# EAGLE library part XR-T5691J (library exar)
T1 receive BUFFER
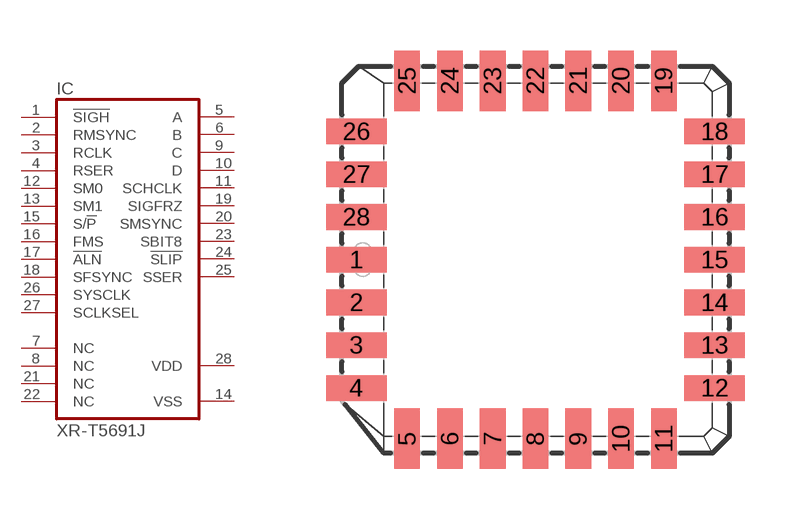
[diagram p57: symbol with the pads of PLCC28; footprint PLCC28]

Designator prefix IC

## XR-T5691J (OC_FARNELL: unknown; OC_NEWARK: unknown)  [PLCC28]
1  !SIGH  in
2  RMSYNC  in
3  RCLK  in
4  RSER  in
5  A  out
6  B  out
7  NC  nc
8  NC  nc
9  C  out
10  D  out
11  SCHCLK  out
12  SM0  in
13  SM1  in
14  VSS  pwr
15  S/!P  in
16  FMS  in
17  !ALN  in
18  SFSYNC  in
19  SIGFRZ  out
20  SMSYNC  out
21  NC  nc
22  NC  nc
23  SBIT8  out
24  !SLIP  out
25  SSER  out
26  SYSCLK  in
27  SCLKSEL  in
28  VDD  pwr

## Footprint PLCC28 (pad centres in mm)
Plastic Leaded Chip Carrier
smd 1.8 x 0.76: 1 -5.32,0; 2 -5.32,-1.27; 3 -5.32,-2.54; 4 -5.32,-3.81; 12 5.32,-3.81; 13 5.32,-2.54; 14 5.32,-1.27; 15 5.32,0; 16 5.32,1.27; 17 5.32,2.54; 18 5.32,3.81; 26 -5.32,3.81; 27 -5.32,2.54; 28 -5.32,1.27
smd 0.76 x 1.8: 5 -3.81,-5.32; 6 -2.54,-5.32; 7 -1.27,-5.32; 8 0,-5.32; 9 1.27,-5.32; 10 2.54,-5.32; 11 3.81,-5.32; 19 3.81,5.32; 20 2.54,5.32; 21 1.27,5.32; 22 0,5.32; 23 -1.27,5.32; 24 -2.54,5.32; 25 -3.81,5.32